# Altium integrated library 1060TR.IntLib: 1 symbol
Pins are listed as number, name and electrical type; pins without a type are passive.

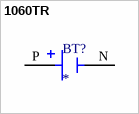
[diagram p0: symbol 1060TR]

## 1060TR
designator BT?
Holder; SMT; Vibra-Fit; Cells 2025 & 2032; Tape & Reel | Keystone Electronics 1060TR; SnapEDA_Link: https://www.snapeda.com/parts/1060TR/Keystone/view-part/?ref=snap; Package: 1060TR Keystone; Value: *; MF: Keystone; MP: 1060TR; Check_prices: https://www.snapeda.com/parts/1060TR/Keystone/view-part/?ref=eda
footprint BAT_1060TR
pins: N NEG, P POS